# Altium schematic symbol library TPS2116DRLR.SchLib: 1 symbol
Pins are listed as number, name and electrical type; pins without a type are passive.

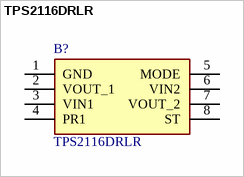
[diagram p0: symbol TPS2116DRLR]

## TPS2116DRLR
designator B?
d; Manufacturer_Name: Texas Instruments; Geometry.Height: 0.6mm; Mouser Part Number: 595-TPS2116DRLR; Mouser Price/Stock: https://www.mouser.co.uk/ProductDetail/Texas-Instruments/TPS2116DRLR?qs=aP1CjGhiNiGo3XAyXcVPaQ%3D%3D; Manufacturer_Part_Number: TPS2116DRLR; Datasheet Link: https://www.ti.com/lit/gpn/tps2116
footprint SOTFL50P160X60-8N
pins: 1 GND, 2 VOUT_1, 3 VIN1, 4 PR1, 5 MODE, 6 VIN2, 7 VOUT_2, 8 ST